# Altium footprint library COMM_SCHPCB.PcbLib: 136 footprints (part 7 of 9)
Each footprint in its own frame and in the unit in brackets; x right, y up, seen from the top. Pads: shape width x height; smd on the part's side, far side on the other; paste and mask are expansions set on the pad; w line width, h text height; cw(c..) or ccw(c..) is an arc to the next point about the centre after c.
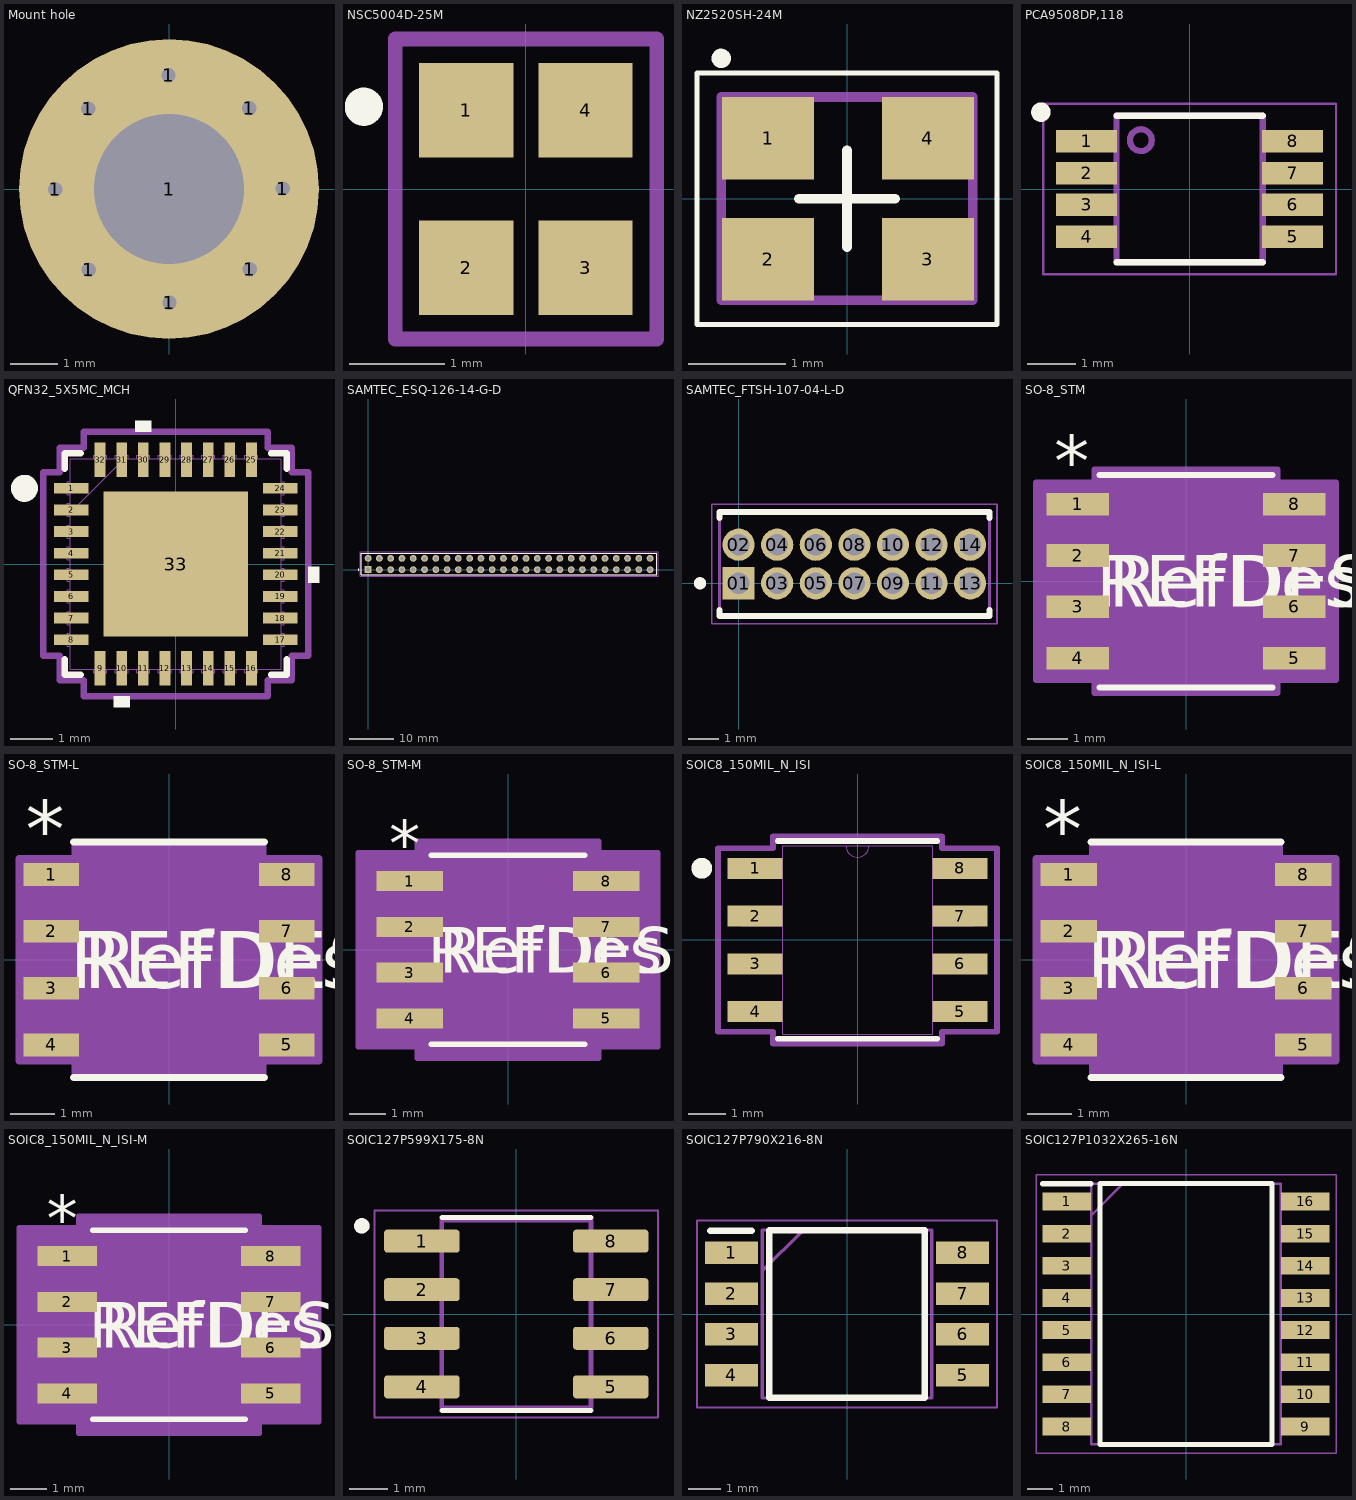
[diagram p6: the footprints below, top view; thin cyan lines are the x and y axes]

## Mount hole [mm]
pads (9):
  round 0.6 hole 0.3: 1(-2.408,-0.007) 1(-1.708,1.697) 1(-1.697,-1.708) 1(-0.007,2.408) 1(0.007,-2.408) 1(1.697,1.708) 1(1.708,-1.697) 1(2.408,0.007)
  round 6.35 hole 3.18 paste-2539.97: 1(0,0)

## NSC5004D-25M [mm] "25 MHz XO (Standard) CMOS Oscillator 3.3V Standby (Power Down) 4-SMD, No Lead"
pads (4):
  rect 0.991x0.991 smd paste+0 mask+0: 1(-0.625,0.825) 2(-0.625,-0.825) 3(0.625,-0.825) 4(0.625,0.825)
Top Overlay:
  circle w0.3: c-1.702,0.864 r0.05
Mechanical 15:
  lines w0.152: -1.374,-1.574 -1.308,-1.574 1.308,-1.574 1.374,-1.574 1.374,1.574 1.308,1.574 -1.308,1.574 -1.374,1.574 -1.374,-1.574
3D body "NSC5004_NDK.step": height 0.89, standoff 0, extent -1.054,-1.295 1.054,1.295

## NZ2520SH-24M [mm]
height 0.9
pads (4):
  rect 0.95x0.85 smd: 1(-0.815,0.625) 2(-0.815,-0.625) 3(0.835,-0.625) 4(0.835,0.625)
Top Overlay:
  circle w0.1: c-1.3,1.45 r0.05
  lines w0.05: -1.55,-1.3 1.55,-1.3 1.55,1.3 -1.55,1.3 -1.55,-1.3
  lines w0.1: -0.5,0 0.5,0 ; 0,-0.5 0,0.5
Top Assembly:
  lines w0.1: -1.3,-1.05 1.3,-1.05 1.3,1.05 -1.3,1.05 -1.3,-1.05
3D body: height 0.9, standoff 0, extent -1.3,-1.05 1.3,1.05

## PCA9508DP,118 [mm]
pads (8):
  rect 1.25x0.46 smd: 1(-2.11,0.975) 2(-2.11,0.325) 3(-2.11,-0.325) 4(-2.11,-0.975) 5(2.11,-0.975) 6(2.11,-0.325) 7(2.11,0.325) 8(2.11,0.975)
Top Overlay:
  circle w0.2: c-3.05,1.575 r0.1
  lines w0.127: -1.5,-1.5 1.5,-1.5 ; -1.5,1.5 1.5,1.5
Mechanical 13:
  circle w0.127: c-1,1 r0.224
  lines w0.127: -1.5,-1.5 -1.5,1.5 1.5,1.5 1.5,-1.5 -1.5,-1.5
Mechanical 15:
  lines w0.05: -3,-1.75 -3,1.75 3,1.75 3,-1.75 -3,-1.75
3D body "step_temp.STEP": height 1.1, standoff 0, extent -2.45,-1.5 2.45,1.5

## QFN32_5X5MC_MCH [mil]
pads (33):
  rect 32x10 smd paste+0 mask+0: 1(-96.5,70) 2(-96.5,50) 3(-96.5,30) 4(-96.5,10) 5(-96.5,-10) 6(-96.5,-30) 7(-96.5,-50) 8(-96.5,-70) 17(96.5,-70) 18(96.5,-50) 19(96.5,-30) 20(96.5,-10) 21(96.5,10) 22(96.5,30) 23(96.5,50) 24(96.5,70)
  rect 10x32 smd paste+0 mask+0: 9(-70,-96.5) 10(-50,-96.5) 11(-30,-96.5) 12(-10,-96.5) 13(10,-96.5) 14(30,-96.5) 15(50,-96.5) 16(70,-96.5) 25(70,96.5) 26(50,96.5) 27(30,96.5) 28(10,96.5) 29(-10,96.5) 30(-30,96.5) 31(-50,96.5) 32(-70,96.5)
  rect 134x134 smd paste-66.5 mask-66.5: 33(0,0)
Top Overlay:
  circle w15: c-140,70 r5
  region: -22.5,122.5 -37.5,122.5 -37.5,132.5 -22.5,132.5
  region: 122.5,-2.5 132.5,-2.5 132.5,-17.5 122.5,-17.5
  region: -42.5,-122.5 -57.5,-122.5 -57.5,-132.5 -42.5,-132.5
  lines w6: -102.5,-88.1 -102.5,-102.5 -88.1,-102.5 ; -102.5,88.1 -102.5,102.5 -88.1,102.5 ; 88.1,-102.5 102.5,-102.5 102.5,-88.1 ; 88.1,102.5 102.5,102.5 102.5,88.1
Top Paste:
  drawing of 25 lines, arcs and shapes, not listed
Top Solder:
  region: 54.37,-69.5 54.37,69.5 69.5,69.5 69.5,-69.5
  region: 38.63,-69.5 38.63,69.5 23.37,69.5 23.37,-69.5
  region: 7.63,-69.5 7.63,69.5 -7.63,69.5 -7.63,-69.5
  region: -23.37,-69.5 -23.37,69.5 -38.63,69.5 -38.63,-69.5
  region: -69.5,-69.5 -69.5,69.5 -54.37,69.5 -54.37,-69.5
  region: -69.5,-69.5 -69.5,-54.37 69.5,-54.37 69.5,-69.5
  region: -69.5,-38.63 -69.5,-23.37 69.5,-23.37 69.5,-38.63
  region: -69.5,-7.63 -69.5,7.63 69.5,7.63 69.5,-7.63
  region: -69.5,23.37 -69.5,38.63 69.5,38.63 69.5,23.37
  region: -69.5,54.37 -69.5,69.5 69.5,69.5 69.5,54.37
Mechanical 13:
  lines w1: -97.5,47.5 -47.5,97.5 ; -100.5,-76 -97.5,-76 -97.5,-64 -100.5,-64 -100.5,-76 ; -100.5,-56 -97.5,-56 -97.5,-44 -100.5,-44 -100.5,-56 ; -100.5,-36 -97.5,-36 -97.5,-24 -100.5,-24 -100.5,-36 ; -100.5,-16 -97.5,-16 -97.5,-4 -100.5,-4 -100.5,-16 ; -100.5,4 -97.5,4 -97.5,16 -100.5,16 -100.5,4 ; -100.5,24 -97.5,24 -97.5,36 -100.5,36 -100.5,24 ; -100.5,44 -97.5,44 -97.5,56 -100.5,56 -100.5,44 ; -100.5,64 -97.5,64 -97.5,76 -100.5,76 -100.5,64 ; -97.5,-97.5 -97.5,97.5 97.5,97.5 97.5,-97.5 -97.5,-97.5 ; -76,-100.5 -64,-100.5 -64,-97.5 -76,-97.5 -76,-100.5 ; -76,97.5 -76,100.5 -64,100.5 -64,97.5 -76,97.5 ; -56,-100.5 -44,-100.5 -44,-97.5 -56,-97.5 -56,-100.5 ; -56,97.5 -56,100.5 -44,100.5 -44,97.5 -56,97.5 ; -36,-100.5 -24,-100.5 -24,-97.5 -36,-97.5 -36,-100.5 ; -36,97.5 -36,100.5 -24,100.5 -24,97.5 -36,97.5 ; -16,-100.5 -4,-100.5 -4,-97.5 -16,-97.5 -16,-100.5 ; -16,97.5 -16,100.5 -4,100.5 -4,97.5 -16,97.5 ; 4,-100.5 16,-100.5 16,-97.5 4,-97.5 4,-100.5 ; 4,97.5 4,100.5 16,100.5 16,97.5 4,97.5 ; 24,-100.5 36,-100.5 36,-97.5 24,-97.5 24,-100.5 ; 24,97.5 24,100.5 36,100.5 36,97.5 24,97.5 ; 44,-100.5 56,-100.5 56,-97.5 44,-97.5 44,-100.5 ; 44,97.5 44,100.5 56,100.5 56,97.5 44,97.5 ; 64,-100.5 76,-100.5 76,-97.5 64,-97.5 64,-100.5 ; 64,97.5 64,100.5 76,100.5 76,97.5 64,97.5 ; 97.5,-76 100.5,-76 100.5,-64 97.5,-64 97.5,-76 ; 97.5,-56 100.5,-56 100.5,-44 97.5,-44 97.5,-56 ; 97.5,-36 100.5,-36 100.5,-24 97.5,-24 97.5,-36 ; 97.5,-16 100.5,-16 100.5,-4 97.5,-4 97.5,-16 ; 97.5,4 100.5,4 100.5,16 97.5,16 97.5,4 ; 97.5,24 100.5,24 100.5,36 97.5,36 97.5,24 ; 97.5,44 100.5,44 100.5,56 97.5,56 97.5,44 ; 97.5,64 100.5,64 100.5,76 97.5,76 97.5,64
Mechanical 15:
  lines w6: -122.5,-85 -122.5,85 -107.5,85 -107.5,107.5 -85,107.5 -85,122.5 85,122.5 85,107.5 107.5,107.5 107.5,85 122.5,85 122.5,-85 107.5,-85 107.5,-107.5 85,-107.5 85,-122.5 -85,-122.5 -85,-107.5 -107.5,-107.5 -107.5,-85 -122.5,-85
3D body "QFN32_5X5MC_MCH.step": height 65.12, standoff 0, extent -100.51,-100.51 100.51,100.51

## SAMTEC_ESQ-126-14-G-D [mm]
pads (52):
  rect 1.53x1.53 hole 0.9: 01(0,0)
  round 1.53 hole 0.9: 02(0,2.54) 03(2.54,0) 04(2.54,2.54) 05(5.08,0) 06(5.08,2.54) 07(7.62,0) 08(7.62,2.54) 09(10.16,0) 10(10.16,2.54) 11(12.7,0) 12(12.7,2.54) 13(15.24,0) 14(15.24,2.54) 15(17.78,0) 16(17.78,2.54) 17(20.32,0) 18(20.32,2.54) 19(22.86,0) 20(22.86,2.54) 21(25.4,0) 22(25.4,2.54) 23(27.94,0) 24(27.94,2.54) 25(30.48,0) 26(30.48,2.54) 27(33.02,0) 28(33.02,2.54) 29(35.56,0) 30(35.56,2.54) 31(38.1,0) 32(38.1,2.54) 33(40.64,0) 34(40.64,2.54) 35(43.18,0) 36(43.18,2.54) 37(45.72,0) 38(45.72,2.54) 39(48.26,0) 40(48.26,2.54) 41(50.8,0) 42(50.8,2.54) 43(53.34,0) 44(53.34,2.54) 45(55.88,0) 46(55.88,2.54) 47(58.42,0) 48(58.42,2.54) 49(60.96,0) 50(60.96,2.54) 51(63.5,0) 52(63.5,2.54)
Top Overlay:
  circle w0.2: c-2.175,0 r0.1
  lines w0.2: -1.525,-1.205 -1.525,3.745 65.025,3.745 65.025,-1.205 -1.525,-1.205
Mechanical 13:
  circle w0.2: c-2.175,0 r0.1
  lines w0.1: -1.525,-1.205 -1.525,3.745 ; -1.525,-1.205 65.025,-1.205 ; -1.525,-1.205 -1.525,3.745 ; -1.525,3.745 65.025,3.745 ; -1.525,3.745 65.025,3.745 ; 65.025,-1.205 65.025,3.745 ; 65.025,-1.205 65.025,3.745
Mechanical 15:
  lines w0.05: -1.775,-1.455 -1.775,3.995 65.275,3.995 65.275,-1.455 -1.775,-1.455
3D body "ESQ-126-14-G-D.stp": height 11.1, standoff -12.14, extent -1.524,-1.27 65.024,3.81

## SAMTEC_FTSH-107-04-L-D [mm]
pads (14):
  rect 1.06x1.06 / inner round 1.06 / far side rect 1.06x1.06 hole 0.71: 01(0,0)
  round 1.06 hole 0.71: 02(0,1.27) 03(1.27,0) 04(1.27,1.27) 05(2.54,0) 06(2.54,1.27) 07(3.81,0) 08(3.81,1.27) 09(5.08,0) 10(5.08,1.27) 11(6.35,0) 12(6.35,1.27) 13(7.62,0) 14(7.62,1.27)
Top Overlay:
  circle w0.2: c-1.27,0 r0.1
  lines w0.2: -0.635,-0.88 -0.635,-1.08 8.255,-1.08 8.255,-0.88 ; -0.635,2.15 -0.635,2.35 8.255,2.35 8.255,2.15
Mechanical 13:
  circle w0.2: c-1.27,0 r0.1
  lines w0.1: -0.635,-1.08 -0.635,2.35 8.255,2.35 8.255,-1.08 -0.635,-1.08
Mechanical 15:
  lines w0.05: -0.885,-1.33 -0.885,2.6 8.505,2.6 8.505,-1.33 -0.885,-1.33
3D body "step_temp.STEP": height 6.32, standoff -2.29, extent -0.635,-1.079 8.255,2.349

## SO-8_STM [mil]
pads (8):
  rect 61x22 smd paste+0 mask+0: 1(-105.5,75) 2(-105.5,25) 3(-105.5,-25) 4(-105.5,-75) 5(105.5,-75) 6(105.5,-25) 7(105.5,25) 8(105.5,75)
Top Overlay:
  lines w6: -84,-103.5 84,-103.5 ; -84,103.5 84,103.5
  text "REFDES" at -87.5,-25 h50
  text "*" at -128,92 h50
  text "RefDes" at -75,-25 h50
Mechanical 13:
  lines w0: -12,98.5 ccw(c0,98.5) 12,98.5
  lines w1: -122,-85 -122,-65 -79,-65 -79,-85 -122,-85 ; -122,-35 -122,-15 -79,-15 -79,-35 -122,-35 ; -122,15 -122,35 -79,35 -79,15 -122,15 ; -122,65 -122,85 -79,85 -79,65 -122,65 ; -79,-98.5 79,-98.5 79,98.5 -79,98.5 -79,-98.5 ; 79,-85 79,-65 122,-65 122,-85 79,-85 ; 79,-35 79,-15 122,-15 122,-35 79,-35 ; 79,15 79,35 122,35 122,15 79,15 ; 79,65 79,85 122,85 122,65 79,65
  text "*" at -76.5,45.5 h50
  text "RefDes2" at -87.5,-25 h50
Mechanical 15:
  region: -89,-96 -146,-96 -146,96 -89,96 -89,108.5 89,108.5 89,96 146,96 146,-96 89,-96 89,-108.5 -89,-108.5
  lines w6: -146,-96 -146,96 -89,96 -89,108.5 89,108.5 89,96 146,96 146,-96 89,-96 89,-108.5 -89,-108.5 -89,-96 -146,-96
3D body "SO-8_STM.step": height 69.09, standoff 0, extent -122.01,-98.5 122.01,98.5

## SO-8_STM-L [mil]
pads (8):
  rect 49x20 smd paste+0 mask+0: 1(-103.5,75) 2(-103.5,25) 3(-103.5,-25) 4(-103.5,-75) 5(103.5,-75) 6(103.5,-25) 7(103.5,25) 8(103.5,75)
Top Overlay:
  lines w6: -84,-103.5 84,-103.5 ; -84,103.5 84,103.5
  text "REFDES" at -87.5,-25 h50
  text "*" at -126,90 h50
  text "RefDes" at -75,-25 h50
Mechanical 13:
  lines w0: -12,98.5 ccw(c0,98.5) 12,98.5
  lines w1: -122,-85 -122,-65 -79,-65 -79,-85 -122,-85 ; -122,-35 -122,-15 -79,-15 -79,-35 -122,-35 ; -122,15 -122,35 -79,35 -79,15 -122,15 ; -122,65 -122,85 -79,85 -79,65 -122,65 ; -79,-98.5 79,-98.5 79,98.5 -79,98.5 -79,-98.5 ; 79,-85 79,-65 122,-65 122,-85 79,-85 ; 79,-35 79,-15 122,-15 122,-35 79,-35 ; 79,15 79,35 122,35 122,15 79,15 ; 79,65 79,85 122,85 122,65 79,65
  text "*" at -76.5,45.5 h50
  text "RefDes2" at -87.5,-25 h50
Mechanical 15:
  region: -83,-89 -132,-89 -132,89 -83,89 -83,102.5 83,102.5 83,89 132,89 132,-89 83,-89 83,-102.5 -83,-102.5
  lines w6: -132,-89 -132,89 -83,89 -83,102.5 83,102.5 83,89 132,89 132,-89 83,-89 83,-102.5 -83,-102.5 -83,-89 -132,-89
3D body "SO-8_STM.step": height 69.09, standoff 0, extent -122.01,-98.5 122.01,98.5

## SO-8_STM-M [mil]
pads (8):
  rect 73x22 smd paste+0 mask+0: 1(-107.5,75) 2(-107.5,25) 3(-107.5,-25) 4(-107.5,-75) 5(107.5,-75) 6(107.5,-25) 7(107.5,25) 8(107.5,75)
Top Overlay:
  lines w6: -84,-103.5 84,-103.5 ; -84,103.5 84,103.5
  text "RefDes" at -75,-25 h50
  text "*" at -130,92 h50
  text "REFDES" at -87.5,-25 h50
Mechanical 13:
  lines w0: -12,98.5 ccw(c0,98.5) 12,98.5
  lines w1: -122,-85 -79,-85 -79,-65 -122,-65 -122,-85 ; -122,-35 -79,-35 -79,-15 -122,-15 -122,-35 ; -122,15 -79,15 -79,35 -122,35 -122,15 ; -122,65 -79,65 -79,85 -122,85 -122,65 ; -79,-98.5 -79,98.5 79,98.5 79,-98.5 -79,-98.5 ; 79,-85 122,-85 122,-65 79,-65 79,-85 ; 79,-35 122,-35 122,-15 79,-15 79,-35 ; 79,15 122,15 122,35 79,35 79,15 ; 79,65 122,65 122,85 79,85 79,65
  text "RefDes2" at -87.5,-25 h50
  text "*" at -76.5,45.5 h50
Mechanical 15:
  region: -99,-106 -164,-106 -164,106 -99,106 -99,118.5 99,118.5 99,106 164,106 164,-106 99,-106 99,-118.5 -99,-118.5
  lines w6: -164,-106 -99,-106 -99,-118.5 99,-118.5 99,-106 164,-106 164,106 99,106 99,118.5 -99,118.5 -99,106 -164,106 -164,-106
3D body "SO-8_STM.step": height 69.09, standoff 0, extent -122.01,-98.5 122.01,98.5

## SOIC8_150MIL_N_ISI [mil]
pads (8):
  rect 57.5x22 smd paste+0 mask+0: 1(-107.25,75) 2(-107.25,25) 3(-107.25,-25) 4(-107.25,-75) 5(107.25,-75) 6(107.25,-25) 7(107.25,25) 8(107.25,75)
Top Overlay:
  circle w11.81: c-163,75 r5
  lines w6: -83.5,-103.5 83.5,-103.5 ; -83.5,103.5 83.5,103.5
Mechanical 13:
  lines w0: -12,98.5 ccw(c0,98.5) 12,98.5
  lines w1: -122,-85 -122,-65 -78.5,-65 -78.5,-85 -122,-85 ; -122,-35 -122,-15 -78.5,-15 -78.5,-35 -122,-35 ; -122,15 -122,35 -78.5,35 -78.5,15 -122,15 ; -122,65 -122,85 -78.5,85 -78.5,65 -122,65 ; -78.5,-98.5 78.5,-98.5 78.5,98.5 -78.5,98.5 -78.5,-98.5 ; 78.5,-85 78.5,-65 122,-65 122,-85 78.5,-85 ; 78.5,-35 78.5,-15 122,-15 122,-35 78.5,-35 ; 78.5,15 78.5,35 122,35 122,15 78.5,15 ; 78.5,65 78.5,85 122,85 122,65 78.5,65
Mechanical 15:
  lines w6: -146,-96 -146,96 -88.5,96 -88.5,108.5 88.5,108.5 88.5,96 146,96 146,-96 88.5,-96 88.5,-108.5 -88.5,-108.5 -88.5,-96 -146,-96
3D body "SOIC8_150MIL_N_ISI.step": height 69.09, standoff 0, extent -122.01,-98.5 122.01,98.5

## SOIC8_150MIL_N_ISI-L [mil]
pads (8):
  rect 49.5x20 smd paste+0 mask+0: 1(-103.25,75) 2(-103.25,25) 3(-103.25,-25) 4(-103.25,-75) 5(103.25,-75) 6(103.25,-25) 7(103.25,25) 8(103.25,75)
Top Overlay:
  lines w6: -83.5,-103.5 83.5,-103.5 ; -83.5,103.5 83.5,103.5
  text "RefDes" at -75,-25 h50
  text "*" at -125.75,90 h50
  text "REFDES" at -87.5,-25 h50
Mechanical 13:
  lines w0: -12,98.5 ccw(c0,98.5) 12,98.5
  lines w1: -122,-85 -78.5,-85 -78.5,-65 -122,-65 -122,-85 ; -122,-35 -78.5,-35 -78.5,-15 -122,-15 -122,-35 ; -122,15 -78.5,15 -78.5,35 -122,35 -122,15 ; -122,65 -78.5,65 -78.5,85 -122,85 -122,65 ; -78.5,-98.5 -78.5,98.5 78.5,98.5 78.5,-98.5 -78.5,-98.5 ; 78.5,-85 122,-85 122,-65 78.5,-65 78.5,-85 ; 78.5,-35 122,-35 122,-15 78.5,-15 78.5,-35 ; 78.5,15 122,15 122,35 78.5,35 78.5,15 ; 78.5,65 122,65 122,85 78.5,85 78.5,65
  text "RefDes2" at -87.5,-25 h50
  text "*" at -76,45.5 h50
Mechanical 15:
  region: -82.5,-89 -132,-89 -132,89 -82.5,89 -82.5,102.5 82.5,102.5 82.5,89 132,89 132,-89 82.5,-89 82.5,-102.5 -82.5,-102.5
  lines w6: -132,-89 -82.5,-89 -82.5,-102.5 82.5,-102.5 82.5,-89 132,-89 132,89 82.5,89 82.5,102.5 -82.5,102.5 -82.5,89 -132,89 -132,-89
3D body "SOIC8_150MIL_N_ISI.step": height 69.09, standoff 0, extent -122.01,-98.5 122.01,98.5

## SOIC8_150MIL_N_ISI-M [mil]
pads (8):
  rect 65.5x22 smd paste+0 mask+0: 1(-111.25,75) 2(-111.25,25) 3(-111.25,-25) 4(-111.25,-75) 5(111.25,-75) 6(111.25,-25) 7(111.25,25) 8(111.25,75)
Top Overlay:
  lines w6: -83.5,-103.5 83.5,-103.5 ; -83.5,103.5 83.5,103.5
  text "REFDES" at -87.5,-25 h50
  text "*" at -133.75,92 h50
  text "RefDes" at -75,-25 h50
Mechanical 13:
  lines w0: -12,98.5 ccw(c0,98.5) 12,98.5
  lines w1: -122,-85 -122,-65 -78.5,-65 -78.5,-85 -122,-85 ; -122,-35 -122,-15 -78.5,-15 -78.5,-35 -122,-35 ; -122,15 -122,35 -78.5,35 -78.5,15 -122,15 ; -122,65 -122,85 -78.5,85 -78.5,65 -122,65 ; -78.5,-98.5 78.5,-98.5 78.5,98.5 -78.5,98.5 -78.5,-98.5 ; 78.5,-85 78.5,-65 122,-65 122,-85 78.5,-85 ; 78.5,-35 78.5,-15 122,-15 122,-35 78.5,-35 ; 78.5,15 78.5,35 122,35 122,15 78.5,15 ; 78.5,65 78.5,85 122,85 122,65 78.5,65
  text "*" at -76,45.5 h50
  text "RefDes2" at -87.5,-25 h50
Mechanical 15:
  region: -98.5,-106 -164,-106 -164,106 -98.5,106 -98.5,118.5 98.5,118.5 98.5,106 164,106 164,-106 98.5,-106 98.5,-118.5 -98.5,-118.5
  lines w6: -164,-106 -164,106 -98.5,106 -98.5,118.5 98.5,118.5 98.5,106 164,106 164,-106 98.5,-106 98.5,-118.5 -98.5,-118.5 -98.5,-106 -164,-106
3D body "SOIC8_150MIL_N_ISI.step": height 69.09, standoff 0, extent -122.01,-98.5 122.01,98.5

## SOIC127P599X175-8N [mm] "SN65HVD230DR"
pads (8):
  rrect25% 1.97x0.6 smd: 1(-2.47,1.905) 2(-2.47,0.635) 3(-2.47,-0.635) 4(-2.47,-1.905) 5(2.47,-1.905) 6(2.47,-0.635) 7(2.47,0.635) 8(2.47,1.905)
Top Overlay:
  circle w0.2: c-4.04,2.305 r0.1
  lines w0.127: -1.95,-2.525 1.95,-2.525 ; -1.95,2.525 1.95,2.525
Mechanical 13:
  circle w0.2: c-4.04,2.305 r0.1
  lines w0.127: -1.95,-2.452 -1.95,2.452 1.95,2.452 1.95,-2.452 -1.95,-2.452
Mechanical 15:
  lines w0.05: -3.705,-2.702 -3.705,2.702 3.705,2.702 3.705,-2.702 -3.705,-2.702
3D body "step_temp.STEP": height 1.75, standoff 0, extent -3,-2.45 3,2.45

## SOIC127P790X216-8N [mm]
pads (8):
  rect 1.65x0.7 smd: 1(-3.6,1.905) 2(-3.6,0.635) 3(-3.6,-0.635) 4(-3.6,-1.905) 5(3.6,-1.905) 6(3.6,-0.635) 7(3.6,0.635) 8(3.6,1.905)
Top Overlay:
  lines w0.2: -4.267,2.591 -2.972,2.591 ; -2.425,-2.615 2.425,-2.615 2.425,2.615 -2.425,2.615 -2.425,-2.615
Mechanical 15:
  lines w0.1: -2.64,1.345 -1.37,2.615 ; -2.64,-2.615 2.64,-2.615 2.64,2.615 -2.64,2.615 -2.64,-2.615
Mechanical 20:
  lines w0.05: -4.675,-2.915 4.675,-2.915 4.675,2.915 -4.675,2.915 -4.675,-2.915
3D body "AS3004204-0108X0PSAY.stp": height 2.16, standoff 0, extent -3.95,-2.615 3.95,2.615

## SOIC127P1032X265-16N [mm]
pads (16):
  rect 1.925x0.7 smd: 1(-4.712,4.445) 2(-4.712,3.175) 3(-4.712,1.905) 4(-4.712,0.635) 5(-4.712,-0.635) 6(-4.712,-1.905) 7(-4.712,-3.175) 8(-4.712,-4.445) 9(4.712,-4.445) 10(4.712,-3.175) 11(4.712,-1.905) 12(4.712,-0.635) 13(4.712,0.635) 14(4.712,1.905) 15(4.712,3.175) 16(4.712,4.445)
Top Overlay:
  lines w0.2: -5.675,5.145 -3.75,5.145 ; -3.4,-5.15 -3.4,5.15 3.4,5.15 3.4,-5.15 -3.4,-5.15
Mechanical 15:
  lines w0.1: -3.75,3.88 -2.48,5.15 ; -3.75,-5.15 -3.75,5.15 3.75,5.15 3.75,-5.15 -3.75,-5.15
Mechanical 20:
  lines w0.05: -5.925,-5.5 -5.925,5.5 5.925,5.5 5.925,-5.5 -5.925,-5.5